# EAGLE library part 691244710009 (library Wurth_Connectors_WR-TBL Rising Cage Clamp)
WR-TBL Serie 2447 - 5.00 mm Horizontal Entry Modular w. Rising Cage Clamp KIND PROPERTIES Pitch 5 mm MATERIAL PROPERTIES Insulator Material PA6/66; PA66 Insulator Flammability Rating UL94 V-0 Insulator Color Green Contact Material Copper Alloy Contact Plating Nickel over Tin; Tin over Nickel Contact Type Stamped Terminal Screw Material Steel Terminal Screw Plating Zinc Wire Guard Material Copper Alloy GENERAL INFORMATION Operating Temperature -30 up to +120 °C Compliance Lead free / RoHS;​ ROHS & Reach ELECTRICAL PROPERTIES IR UL 16 A IR VDE 24 A Working Voltage [UL] 300 V (AC) Working Voltage [VDE] 450 V (AC) Withstanding Voltage [UL] 1600 V (AC) Withstanding Voltage [VDE] 2000 V (AC); 2500 V (AC) Contact Resistance 20 mΩ Contact Resistance [UL] 20 mΩ Contact Resistance [VDE] 20 mΩ MECHANICAL PROPERTIES Wire Strip Length 6; 6 (mm) Screw M3 CERTIFICATION UL Approval E150931 CAT. N°: MRT15 (4) VDE Approval 40015450 VDE Approval 40015450 TYPE: MRT15 PACKAGING PROPERTIES Packaging Box <https://www.we-online.com/catalog/media/o32911v209%20Family_Con_TBL_Screw_RisingClamp_5_6912447100xx_pf2.jpg> Details see: https://www.we-online.com/catalog/en/TBL_5_00_2447_HORIZONTAL_ENTRYW_RISING_CAGE_6912447100xx/ Updated by Ella Wu 2019-11-22 2019(C) Wurth Elektronik
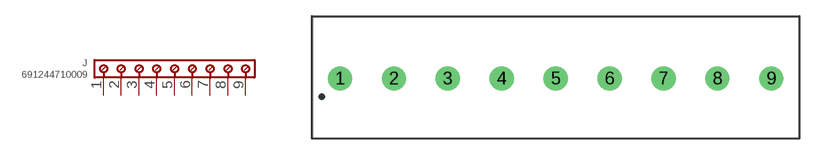
[diagram p33: symbol with the pads of 691244710009; footprint 691244710009]

Designator prefix J

## 691244710009 (DATASHEET-URL: https://www.we-online.com/redexpert/spec/691244710009?ae; IR-UL: 16A; IR-VDE: 24A; MOUNT: THT; PART-NUMBER: 691244710009; PINS: 9; PITCH: 5mm; TYPE: Horizontal; WIRE: 30 to 12 (AWG) 0.0509 to 3.31 (mm²); WORKING-VOLTAGE-UL: 300V (AC); WORKING-VOLTAGE-VDE: 450V (AC))  [691244710009]
1  1  pas
2  2  pas
3  3  pas
4  4  pas
5  5  pas
6  6  pas
7  7  pas
8  8  pas
9  9  pas

## Footprint 691244710009 (pad centres in mm)
WR-TBL Serie 2447 - 5.00 mm Horizontal Entry Modular w. Rising Cage Clamp Max Height =18mm , Pitch 5mm , 9 Pins
drill 1.5: 1 -20,0; 2 -15,0; 3 -10,0; 4 -5,0; 5 0,0; 6 5,0; 7 10,0; 8 15,0; 9 20,0